# EAGLE library part TXS0104EYZTR (library LinnesLab-Comms)
Check availability <https://pricing.snapeda.com/parts/TXS0104EYZTR/Texas%20Instruments/view-part?ref=eda>
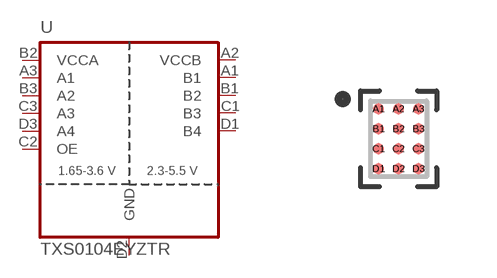
[diagram p0: symbol with the pads of BGA12N50P4X3_186X136X62N; footprint BGA12N50P4X3_186X136X62N]

Designator prefix U

## TXS0104EYZTR (AVAILABILITY: In Stock; DESCRIPTION: 4-Bit Bidirectional Voltage-Level Shifter for Open-Drain and Push-Pull Applications 12-DSBGA -40 to 85; MF: Texas Instruments; MP: TXS0104EYZTR; PACKAGE: DSBGA-12 Texas Instruments; PRICE: None; PURCHASE-URL: https://pricing.snapeda.com/search/part/TXS0104EYZTR/?ref=eda)  [BGA12N50P4X3_186X136X62N]
A1  B1
A2  VCCB  pwr
A3  A1
B1  B2
B2  VCCA  pwr
B3  A2
C1  B3
C2  OE  in
C3  A3
D1  B4
D2  GND  pwr
D3  A4

## Footprint BGA12N50P4X3_186X136X62N (pad centres in mm)
smd 0.27 x 0.27: A1 -0.5,0.75; A2 0,0.75; A3 0.5,0.75; B1 -0.5,0.25; B2 0,0.25; B3 0.5,0.25; C1 -0.5,-0.25; C2 0,-0.25; C3 0.5,-0.25; D1 -0.5,-0.75; D2 0,-0.75; D3 0.5,-0.75